# EAGLE library part SN74HC595 (library eagle-library-engr-245-s22)
8-BIT SHIFT REGISTERS WITH 3-STATE OUTPUT REGISTERS
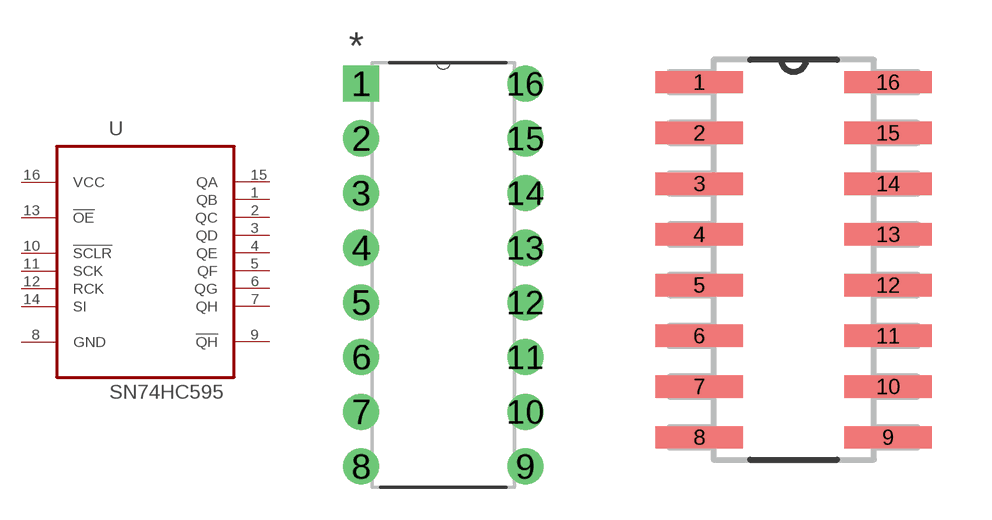
[diagram p1: symbol with the pads of DIP254P762X508-16; footprints DIP254P762X508-16, SOIC127P600X175-16N]

Designator prefix U

## SN74HC595-DIP_16 (AVAILABILITY: Good; DESCRIPTION: Shift Register Single 8 Bit Serial To Serial Parallel 16 Pin Plastic DIP Tube; MF: Texas Instruments; MP: SN74HC595N; PACKAGE: SOIC-16 Texas Instruments; PRICE: 1.81 USD)  [DIP254P762X508-16]
1  QB  out
2  QC  out
3  QD  out
4  QE  out
5  QF  out
6  QG  out
7  QH  out
8  GND  pas
9  !QH  out
10  !SCLR  in
11  SCK  in
12  RCK  in
13  !OE  in
14  SI  in
15  QA  out
16  VCC  pwr

## SN74HC595-SOIC_16_N  [SOIC127P600X175-16N]
Pads as for DIP254P762X508-16

## Footprint DIP254P762X508-16 (pad centres in mm)
drill 1.118 square: 1 -7.62,17.78
drill 1.118: 2 -7.62,15.24; 3 -7.62,12.7; 4 -7.62,10.16; 5 -7.62,7.62; 6 -7.62,5.08; 7 -7.62,2.54; 8 -7.62,0; 9 0,0; 10 0,2.54; 11 0,5.08; 12 0,7.62; 13 0,10.16; 14 0,12.7; 15 0,15.24; 16 0,17.78

## Footprint SOIC127P600X175-16N (pad centres in mm)
smd 2.184 x 0.559: 1 -2.362,4.445; 2 -2.362,3.175; 3 -2.362,1.905; 4 -2.362,0.635; 5 -2.362,-0.635; 6 -2.362,-1.905; 7 -2.362,-3.175; 8 -2.362,-4.445; 9 2.362,-4.445; 10 2.362,-3.175; 11 2.362,-1.905; 12 2.362,-0.635; 13 2.362,0.635; 14 2.362,1.905; 15 2.362,3.175; 16 2.362,4.445